# EAGLE library part THAT-340 (library MusicThingModular)
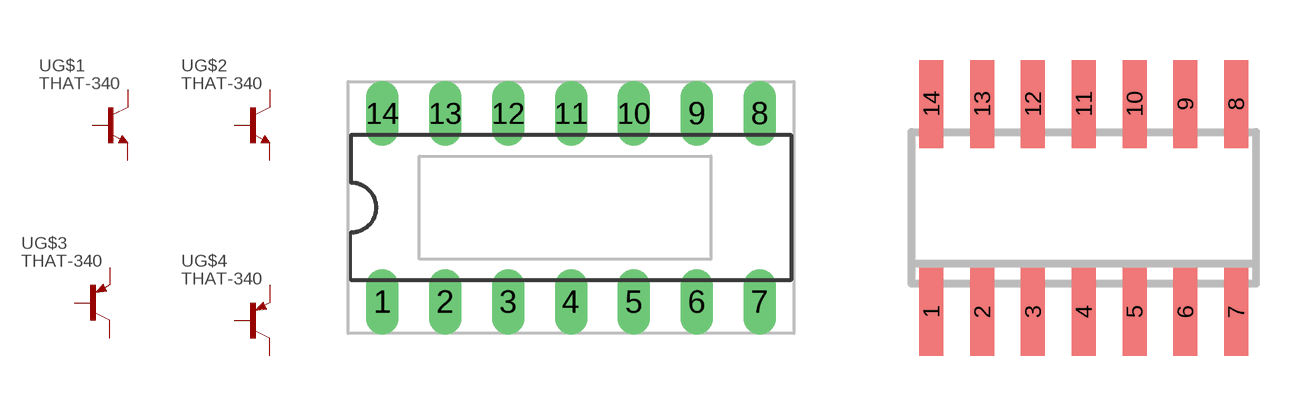
[diagram p8: symbol with the pads of DIL14; footprints DIL14, SO14]

Designator prefix -; gates G$1=NPN G$2=NPN G$3=PNP G$4=PNP

## THAT-340THRUHOLE  [DIL14]
1  G$1:C  pas
2  G$1:B  pas
3  G$1:E  pas
5  G$3:E  pas
6  G$3:B  pas
7  G$3:C  pas
8  G$4:C  pas
9  G$4:B  pas
10  G$4:E  pas
12  G$2:E  pas
13  G$2:B  pas
14  G$2:C  pas

## THAT-340SMD  [SO14]
Pads as for DIL14

## Footprint DIL14 (pad centres in mm)
14 pin IC, DIP package
drill 0.813 long: 1 -7.62,-3.81; 2 -5.08,-3.81; 3 -2.54,-3.81; 4 0,-3.81; 5 2.54,-3.81; 6 5.08,-3.81; 7 7.62,-3.81; 8 7.62,3.81; 9 5.08,3.81; 10 2.54,3.81; 11 0,3.81; 12 -2.54,3.81; 13 -5.08,3.81; 14 -7.62,3.81

## Footprint SO14 (pad centres in mm)
Small Outline Package 14
smd 0.6 x 2.2: 1 -3.81,-2.6; 2 -2.54,-2.6; 3 -1.27,-2.6; 4 0,-2.6; 5 1.27,-2.6; 6 2.54,-2.6; 7 3.81,-2.6; 8 3.81,2.6; 9 2.54,2.6; 10 1.27,2.6; 11 0,2.6; 12 -1.27,2.6; 13 -2.54,2.6; 14 -3.81,2.6